# EAGLE library part MAX1759 (library maxim488_custom)
Buck/Boost Regulating Charge Pump in µMAX Source: http://www.maxim-ic.com .. MAX1759.pdf
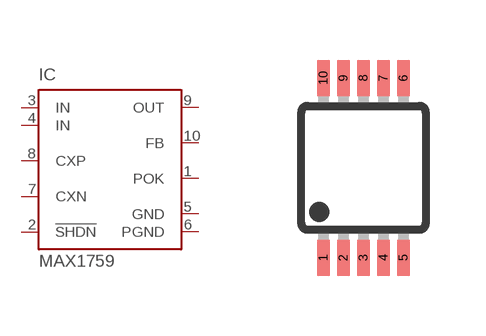
[diagram p378: symbol with the pads of UMAX10; footprint UMAX10]

Designator prefix IC

## MAX1759 (MF: MAXIM; MPN: MAX1759EUB+; OC_FARNELL: 1593325; OC_NEWARK: 61H9447)  [UMAX10]
1  POK  oc
2  !SHDN  in
3  IN  in
4  IN  in
5  GND  pwr
6  PGND  pwr
7  CXN  in
8  CXP  in
9  OUT  pas
10  FB  in

## Footprint UMAX10 (pad centres in mm)
micro MAX Package
smd 0.32 x 0.9: 1 -1,-2.25; 2 -0.5,-2.25; 3 0,-2.25; 4 0.5,-2.25; 5 1,-2.25; 6 1,2.25; 7 0.5,2.25; 8 0,2.25; 9 -0.5,2.25; 10 -1,2.25